# Altium footprint library PCB - ANTENNA - ABRACON AMCA31-2R450G-S1F-T3.PCBLIB: 1 footprints
Each footprint in its own frame and in the unit in brackets; x right, y up, seen from the top. Pads: shape width x height; smd on the part's side, far side on the other; paste and mask are expansions set on the pad; w line width, h text height; cw(c..) or ccw(c..) is an arc to the next point about the centre after c.
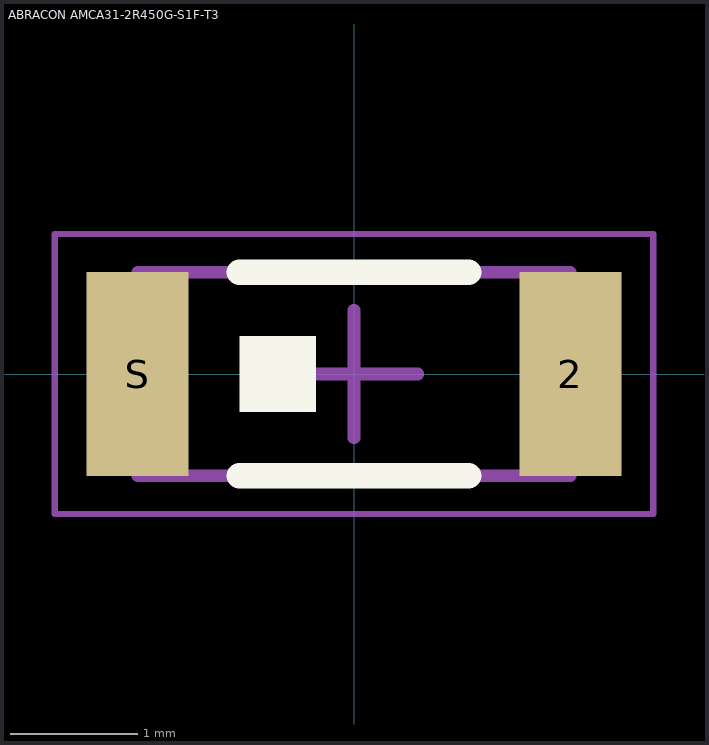
[diagram p0: the footprint, top view; thin cyan lines are the x and y axes]

## ABRACON AMCA31-2R450G-S1F-T3 [mm] "Chip Antenna"
height 1.2
pads (2):
  rect 0.8x1.6 smd: 2(1.7,0) S(-1.7,0)
Top Overlay:
  rectangle: -0.9,-0.3 -0.3,0.3
  lines w0.2: -0.9,-0.8 0.9,-0.8 ; -0.9,0.8 0.9,0.8
Mechanical 13:
  lines w0.1: -1.7,-0.8 1.7,-0.8 1.7,0.8 -1.7,0.8 -1.7,-0.8
Mechanical 15:
  lines w0.05: -2.35,-1.1 2.35,-1.1 2.35,1.1 -2.35,1.1 -2.35,-1.1
  lines w0.1: -0.5,0 0.5,0 ; 0,-0.5 0,0.5
3D body "ABRACON - AMCA31-2R450G-S1F-T3.step": height 1.4, standoff 0, extent -1.6,-0.8 1.6,0.8